# Altium schematic symbol library NG2094.SchLib: 16 symbols
Pins are listed as number, name and electrical type; pins without a type are passive.

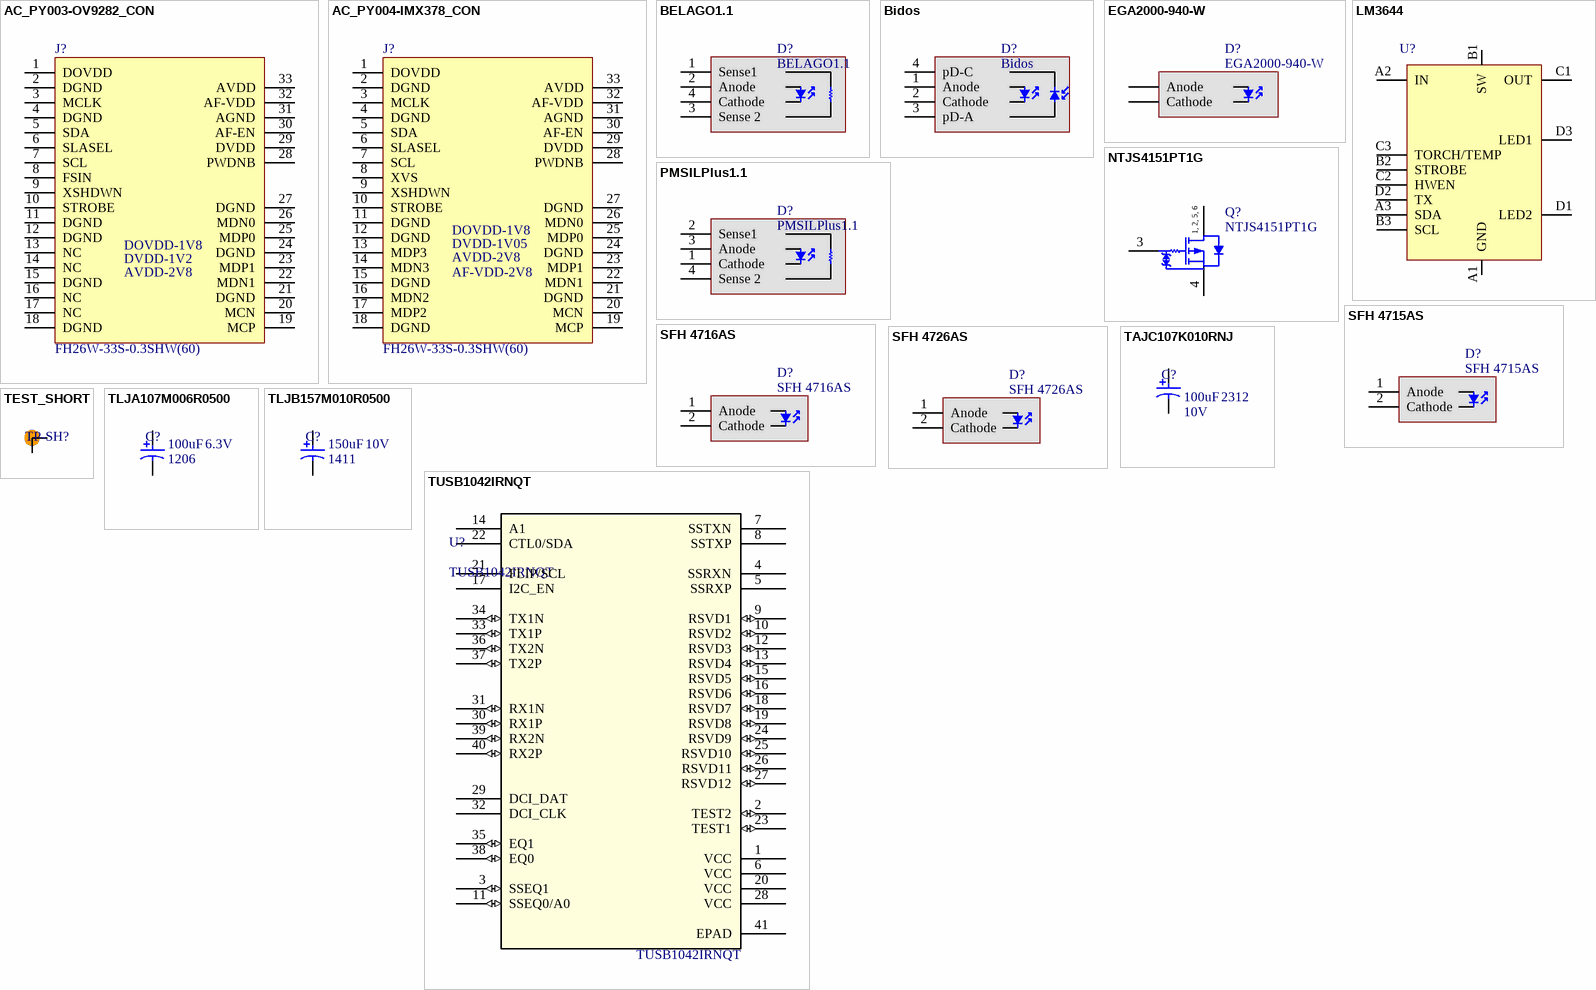
[diagram p0: symbols AC_PY003-OV9282_CON to TUSB1042IRNQT]

## AC_PY003-OV9282_CON
designator J?, comment FH26W-33S-0.3SHW(60)
FFC/FPC Connector, 33 Contact(s), 1 Row(s), Female, Right Angle, Surface Mount Terminal; Manufacturer 1: Hirose; Supplier 1: Digi-Key; Manufacturer Part Number 1: FH26W-33S-0.3SHW(60); RoHS: Yes; Category: FFC / FPC; Stock 1: 627; Pricing 1: 1=1,78000, 10=1,61700, 25=1,51800, 50=1,45200, 100=1,38600, 250=1,25400, 500=1,15500, 1000=0,99000, 2500=0,92400 (USD); ComponentLink1URL: https://datasheet.ciiva.com:443/pdfs/VipMasterIC/IC/HIRO/HIRO-S-A0007913874/HIRO-S-A0008593114-1.pdf?src-supplier=IHS+Markit; ComponentLink1Description: https://datasheet.ciiva.com:443/pdfs/VipMasterIC/IC/HIRO/HIRO-S-A0007913874/HIRO-S-A0008593114-1.pdf?src-supplier=IHS+Markit; ComponentLink2URL: https://www.hirose.com/product/en/download_file/key_name/FH26/category/Catalog/doc_file_id/49355/?file_category_id=4&item_id=298&is_series=1&src-supplier=Digi-Key; ComponentLink2Description: https://www.hirose.com/product/en/download_file/key_name/FH26/category/Catalog/doc_file_id/49355/?file_category_id=4&item_id=298&is_series=1&src-supplier=Digi-Key; ComponentLink3URL: https://www.hirose.com/product/download/?distributor=digikey&amp;type=2d&amp;lang=en&amp;num=FH26W-13S-0.3SHW(60)&src-supplier=Digi-Key; ComponentLink3Description: https://www.hirose.com/product/download/?distributor=digikey&amp;type=2d&amp;lang=en&amp;num=FH26W-13S-0.3SHW(60)&src-supplier=Digi-Key; Supplier Part Number 1: H125800CT-ND
footprint AC-PY003-OV9282 (connector: FH26W-33S-0.3SHW)
pins: 1 DOVDD, 2 DGND, 3 MCLK, 4 DGND, 5 SDA, 6 SLASEL, 7 SCL, 8 FSIN, 9 XSHDWN, 10 STROBE, 11 DGND, 12 DGND, 13 NC, 14 NC, 15 DGND, 16 NC, 17 NC, 18 DGND, 19 MCP, 20 MCN, 21 DGND, 22 MDN1, 23 MDP1, 24 DGND, 25 MDP0, 26 MDN0, 27 DGND, 28 PWDNB, 29 DVDD, 30 AF-EN, 31 AGND, 32 AF-VDD, 33 AVDD
text: DOVDD-1V8; DVDD-1V2; AVDD-2V8

## AC_PY004-IMX378_CON
designator J?, comment FH26W-33S-0.3SHW(60)
FFC/FPC Connector, 33 Contact(s), 1 Row(s), Female, Right Angle, Surface Mount Terminal; Manufacturer 1: Hirose; Supplier 1: Digi-Key; Manufacturer Part Number 1: FH26W-33S-0.3SHW(60); RoHS: Yes; Category: FFC / FPC; Stock 1: 627; Pricing 1: 1=1,78000, 10=1,61700, 25=1,51800, 50=1,45200, 100=1,38600, 250=1,25400, 500=1,15500, 1000=0,99000, 2500=0,92400 (USD); ComponentLink1URL: https://datasheet.ciiva.com:443/pdfs/VipMasterIC/IC/HIRO/HIRO-S-A0007913874/HIRO-S-A0008593114-1.pdf?src-supplier=IHS+Markit; ComponentLink1Description: https://datasheet.ciiva.com:443/pdfs/VipMasterIC/IC/HIRO/HIRO-S-A0007913874/HIRO-S-A0008593114-1.pdf?src-supplier=IHS+Markit; ComponentLink2URL: https://www.hirose.com/product/en/download_file/key_name/FH26/category/Catalog/doc_file_id/49355/?file_category_id=4&item_id=298&is_series=1&src-supplier=Digi-Key; ComponentLink2Description: https://www.hirose.com/product/en/download_file/key_name/FH26/category/Catalog/doc_file_id/49355/?file_category_id=4&item_id=298&is_series=1&src-supplier=Digi-Key; ComponentLink3URL: https://www.hirose.com/product/download/?distributor=digikey&amp;type=2d&amp;lang=en&amp;num=FH26W-13S-0.3SHW(60)&src-supplier=Digi-Key; ComponentLink3Description: https://www.hirose.com/product/download/?distributor=digikey&amp;type=2d&amp;lang=en&amp;num=FH26W-13S-0.3SHW(60)&src-supplier=Digi-Key; Supplier Part Number 1: H125800CT-ND
footprint AC-PY004-IMX378 (connector: FH26W-33S-0.3SHW)
pins: 1 DOVDD, 2 DGND, 3 MCLK, 4 DGND, 5 SDA, 6 SLASEL, 7 SCL, 8 XVS, 9 XSHDWN, 10 STROBE, 11 DGND, 12 DGND, 13 MDP3, 14 MDN3, 15 DGND, 16 MDN2, 17 MDP2, 18 DGND, 19 MCP, 20 MCN, 21 DGND, 22 MDN1, 23 MDP1, 24 DGND, 25 MDP0, 26 MDN0, 27 DGND, 28 PWDNB, 29 DVDD, 30 AF-EN, 31 AGND, 32 AF-VDD, 33 AVDD
text: DOVDD-1V8; DVDD-1V05; AVDD-2V8; AF-VDD-2V8

## BELAGO1.1
designator D?
Dot-Pattern Infrared Illuminator for 3D Stereoscopic / Imaging AQAA-20; Manufacturer 1: AMS; Manufacturer Part Number 1: Belago1.1 AQAA-20
footprint Belago1.1 (SOT23, 6-Leads, Body 2x1.25mm, Pitch 0.65mm)
pins: 1 Sense1, 2 Anode, 3 Sense 2, 4 Cathode

## Bidos
designator D?
Manufacturer 1: AMS; Manufacturer Part Number 1: PMSILPlus1.1
footprint BIDOS (SV105Q131A-940)
pins: 1 Anode, 2 Cathode, 3 pD-A, 4 pD-C

## EGA2000-940-W
designator D?
EGA2000-940-W / Industrial High-Power Flood Illuminator; Manufacturer 1: AMS; Manufacturer Part Number 1: EGA2000-940-W
footprint EGA2000-940 (ams Industrial High-Power Flood Illuminator)
pins: A Anode, C Cathode

## LM3644
designator U?, comment LM3644YFFR  (value not drawn)
LED Driver, 2-Segment, PBGA12; Manufacturer 1: Texas Instruments; Package Body Material: Plastic; Data Input Mode: SERIAL; Interface IC Type: LED DISPLAY DRIVER; Multiplexed Display Capability: No; Number of Functions: 1; Number of Segments: 2; Max Supply Voltage: 5.5V; Min Supply Voltage: 2.5V; Supply Voltage-Nom: 3.6V; Supplier 1: Arrow Electronics; Manufacturer Part Number 1: LM3644YFFR; RoHS: Yes; Category: LED Drivers; Stock 1: 2033; Pricing 1: 1=0,64580, 10=0,63600, 25=0,62590, 100=0,61590, 250=0,60610, 500=0,59600, 1000=0,58600, 3000=0,35000, 30000=0,34520, 300000=0,31610, 1500000=0,29870, 3000000=0,29850 (USD); Package Code: VFBGA; Number of Pins: 12; Package Shape: Rectangular; Terminal Finish: Copper; Min Operating Temperature: -40°C; Max Operating Temperature: 85°C; JESD-609 Code: e1; Moisture Sensitivity Level: 1; Package Style: GRID ARRAY, VERY THIN PROFILE, FINE PITCHMeter; Peak Reflow Temperature (Cel): 260°C; Surface Mount: Yes; Terminal Form: Ball; Terminal Position: BOTTOM; Length: 1.66mm; Width: 1.28mm; Height - Seated (Max): 0.625mm; Terminal Pitch: 0.4mm; Temperature Grade: INDUSTRIAL; REACH SVHC: Yes; RoHS Compliant: Yes; ComponentLink1URL: https://www.ti.com:443/lit/ds/symlink/lm3644.pdf?src-supplier=IHS+Markit; ComponentLink1Description: https://www.ti.com:443/lit/ds/symlink/lm3644.pdf?src-supplier=IHS+Markit; ComponentLink2URL: https://datasheet.ciiva.com/48475/lm3644-48475318.pdf?src-supplier=Avnet; ComponentLink2Description: https://datasheet.ciiva.com/48475/lm3644-48475318.pdf?src-supplier=Avnet; Supplier Part Number 1: LM3644YFFR
footprint LM3644YFFR (DSBGA 12 (pitch 0.4mm))
pins: A1 GND, A2 IN, A3 SDA, B1 SW, B2 STROBE, B3 SCL, C1 OUT, C2 HWEN, C3 TORCH/TEMP, D1 LED2, D2 TX, D3 LED1

## NTJS4151PT1G
designator Q?
Trench Power MOSFET, -20 V, -4.2 A, Single P-Channel, 6-Pin SC70, Pb-Free, Tape and Reel; Manufacturer 1: ON Semiconductor; VGS(th) Max (V): 1.2; VGS Max (V): 12; Crss Typ (pF): 110; Ciss Typ (pF): 850; PD Max (W): 1; Qrr Typ (nC): 0.23; ID Max (A): 4.2; Coss Typ (pF): 160; Channel Polarity: P Channel; V(BR)DSS Min (V): 20; Mounting Technology: Surface Mount; ComponentLink3Description: Package Specification; Packing: Tape and Reel; DatasheetVersion: Rev. 1; RoHS: Pb-Free; Configuration: Single; PackageReference: SC70-6-419B-02_W; PackageVersion: Rev. W; Package Type: SC-88-6 / SC-70-6 / SOT-363-6; ComponentLink3URL: http://www.onsemi.com/pub_link/Collateral/SMF05C-D.PDF; PackageDescription: 6-Pin Small Outline Transistor, Body 2 x 1.25 mm, Pitch 0.65 mm; PartNumber: NTJS4151PT1G; ComponentLink2Description: Datasheet; ComponentLink1Description: Manufacturer URL; ComponentLink2URL: http://www.onsemi.com/pub_link/Collateral/NTJS4151P-D.PDF; ComponentLink1URL: http://www.onsemi.com/; Manufacturer Part Number 1: NTJS4151PT1G
footprint ONSC-SC70-6-419B-02_W_V (SOT23, 6-Leads, Body 2x1.25mm, Pitch 0.65mm)
pins: 1 D, 2 D, 3 G, 4 S, 5 D, 6 D
text: 1, 2, 5, 6

## PMSILPlus1.1
designator D?
Dot-Pattern Infrared Illuminator for 3D Stereoscopic / Imaging AQAA-20; Manufacturer 1: AMS; Manufacturer Part Number 1: PMSILPlus1.1
footprint PMSILPlus1.1 (SOT23, 6-Leads, Body 2x1.25mm, Pitch 0.65mm)
pins: 1 Cathode, 2 Sense1, 3 Anode, 4 Sense 2

## SFH 4715AS
designator D?
OSLON Black Series (850 nm) - 80°; Manufacturer 1: Osram; Ordering code: Q65111A6857; Manufacturer Part Number 1: SFH 4715AS
footprint SFH 4715AS (OSLON Black Series (850 nm) - 80°)
pins: 1 Anode, 2 Cathode

## SFH 4716AS
designator D?
OSLON Black Series (850 nm) - 150°; Manufacturer 1: Osram; Ordering code: Q65111A6856; Manufacturer Part Number 1: SFH 4716AS
footprint SFH 4716AS (OSLON Black Series (850 nm) - 150°)
pins: 1 Anode, 2 Cathode

## SFH 4726AS
designator D?
OSLON Black Series (940 nm) - 150°; Manufacturer 1: Osram Opto; Manufacturer Part Number 1: SFH 4726AS A01; Description: Infrared LED; Supplier 1: Newark; RoHS: Yes; Category: LEDs; Optoelectronic Device Type: INFRARED LED; REACH SVHC: Yes; RoHS Compliant: Yes; ComponentLink1URL: https://datasheet.ciiva.com:443/pdfs/VipMasterIC/IC/OSOS/OSOS-S-A0009010498/OSOS-S-A0009010498-1.pdf?src-supplier=IHS+Markit; ComponentLink1Description: https://datasheet.ciiva.com:443/pdfs/VipMasterIC/IC/OSOS/OSOS-S-A0009010498/OSOS-S-A0009010498-1.pdf?src-supplier=IHS+Markit; ComponentLink2URL: http://www.farnell.com/datasheets/2711624.pdf?src-supplier=Farnell; ComponentLink2Description: http://www.farnell.com/datasheets/2711624.pdf?src-supplier=Farnell; Supplier Part Number 1: 94AC5058; Stock 1: 628; Pricing 1: 1=4,49000, 10=3,74000, 25=3,35000, 50=2,97000, 100=2,58000 (USD)
footprint SFH 4726AS (OSLON Black Series (940 nm) - 150°)
pins: 1 Anode, 2 Cathode

## TAJC107K010RNJ
designator C?  Size Code: 2312  Rated DC Voltage (URdc): 10V  Capacitance: 100uF  (hidden comment: TAJC107K010RNJ)
Tantalum Capacitor, Polarized, Tantalum (dry/solid), 10V, 10% +Tol, 10% -Tol, 100uF, Surface Mount, 2312; Manufacturer 1: Kyocera AVX; ESR (Equivalent Series Resistance): 1.2R; Leakage Current: 10uA; Tan Delta: 0.08; Reference Standard: CECC30801-005; Supplier 1: Digi-Key; Manufacturer Part Number 1: TAJC107K010RNJ; RoHS: Yes; Category: Tantalum Capacitors; Stock 1: 2500; Pricing 1: 1=0,67000, 10=0,47300, 50=0,35780, 100=0,31160 (USD); Mount: Surface Mount; Number of Pins: 2; Dielectric Material: Tantalum; Package Shape: Rectangular; Terminal Finish: Nickel; Min Operating Temperature: -55°C; Max Operating Temperature: 125°C; JESD-609 Code: e3; Polarity: Polarized; Capacitor Type: Tantalum; Negative Tolerance: 10%; Package Style: SMTMeter; Packaging: Tape and Reel; Positive Tolerance: 10%; Termination: J BEND; Length: 6mm; Width: 3.2mm; Height: 2.6mm; REACH SVHC: Yes; RoHS Compliant: Yes; ComponentLink1URL: https://datasheet.ciiva.com:443/pdfs/VipMasterIC/IC/AVXC/AVXC-S-A0008794508/AVXC-S-A0008794508-1.pdf?src-supplier=IHS+Markit; ComponentLink1Description: https://datasheet.ciiva.com:443/pdfs/VipMasterIC/IC/AVXC/AVXC-S-A0008794508/AVXC-S-A0008794508-1.pdf?src-supplier=IHS+Markit; ComponentLink2URL: https://datasheet.ciiva.com/6186/13070-6186737.pdf?src-supplier=Farnell; ComponentLink2Description: https://datasheet.ciiva.com/6186/13070-6186737.pdf?src-supplier=Farnell; ComponentLink3URL: https://datasheet.ciiva.com/11793/0900766b80ccdc61-11793710.pdf?src-supplier=RSComponents; ComponentLink3Description: https://datasheet.ciiva.com/11793/0900766b80ccdc61-11793710.pdf?src-supplier=RSComponents; ComponentLink4URL: https://datasheet.ciiva.com/26341/559445-da-01-en-tacc-c-6-0-mm-x-3-2-mm-x-2-6-mm-100-uf-26341786.pdf?src-supplier=Conrad; ComponentLink4Description: https://datasheet.ciiva.com/26341/559445-da-01-en-tacc-c-6-0-mm-x-3-2-mm-x-2-6-mm-100-uf-26341786.pdf?src-supplier=Conrad; ComponentLink5URL: https://datasheet.ciiva.com/7720/taj-7720616.pdf?src-supplier=Element14; ComponentLink5Description: https://datasheet.ciiva.com/7720/taj-7720616.pdf?src-supplier=Element14; ComponentLink6URL: https://datasheet.ciiva.com/14608/70001050-14608635.pdf?src-supplier=Allied+Electronics; ComponentLink6Description: https://datasheet.ciiva.com/14608/70001050-14608635.pdf?src-supplier=Allied+Electronics; ComponentLink7URL: https://datasheet.ciiva.com/7720/taj-7720618.pdf?src-supplier=Element14; ComponentLink7Description: https://datasheet.ciiva.com/7720/taj-7720618.pdf?src-supplier=Element14; ComponentLink8URL: https://datasheet.ciiva.com/18710/taj-eng-18710871.pdf?src-supplier=Distrelec; ComponentLink8Description: https://datasheet.ciiva.com/18710/taj-eng-18710871.pdf?src-supplier=Distrelec; ComponentLink9URL: https://datasheet.ciiva.com/3004/taj-3004482.pdf?src-supplier=Avnet; ComponentLink9Description: https://datasheet.ciiva.com/3004/taj-3004482.pdf?src-supplier=Avnet; ComponentLink10URL: https://datasheet.ciiva.com/16486/taj-16486014.pdf?src-supplier=Avnet+Asia; ComponentLink10Description: https://datasheet.ciiva.com/16486/taj-16486014.pdf?src-supplier=Avnet+Asia; ComponentLink11URL: https://datasheet.ciiva.com/264/taj-264316.pdf?src-supplier=Digi-Key; ComponentLink11Description: https://datasheet.ciiva.com/264/taj-264316.pdf?src-supplier=Digi-Key; ComponentLink12URL: https://datasheet.ciiva.com/15163/getdatasheetpartid-87208-15163226.pdf?src-supplier=Verical; ComponentLink12Description: https://datasheet.ciiva.com/15163/getdatasheetpartid-87208-15163226.pdf?src-supplier=Verical; ComponentLink13URL: https://datasheet.ciiva.com/7720/13070-7720615.pdf?src-supplier=Element14; ComponentLink13Description: https://datasheet.ciiva.com/7720/13070-7720615.pdf?src-supplier=Element14; ComponentLink14URL: https://datasheet.ciiva.com/14590/70001050-14590206.pdf?src-supplier=Allied+Electronics; ComponentLink14Description: https://datasheet.ciiva.com/14590/70001050-14590206.pdf?src-supplier=Allied+Electronics; ComponentLink15URL: https://datasheet.ciiva.com/11226/taj-11226030.pdf?src-supplier=Avnet; ComponentLink15Description: https://datasheet.ciiva.com/11226/taj-11226030.pdf?src-supplier=Avnet; ComponentLink16URL: https://datasheet.ciiva.com/264/taj-264317.pdf?src-supplier=Digi-Key; ComponentLink16Description: https://datasheet.ciiva.com/264/taj-264317.pdf?src-supplier=Digi-Key; ComponentLink17URL: https://datasheet.ciiva.com/16350/taj-16350362.pdf?src-supplier=Future+Electronics; ComponentLink17Description: https://datasheet.ciiva.com/16350/taj-16350362.pdf?src-supplier=Future+Electronics; ComponentLink18URL: https://datasheet.ciiva.com/7720/1680476-7720617.pdf?src-supplier=Element14; ComponentLink18Description: https://datasheet.ciiva.com/7720/1680476-7720617.pdf?src-supplier=Element14; ComponentLink19URL: https://datasheet.ciiva.com/264/taj-264318.pdf?src-supplier=Digi-Key; ComponentLink19Description: https://datasheet.ciiva.com/264/taj-264318.pdf?src-supplier=Digi-Key; ComponentLink20URL: https://datasheet.ciiva.com/7720/taj-7720830.pdf?src-supplier=Element14; ComponentLink20Description: https://datasheet.ciiva.com/7720/taj-7720830.pdf?src-supplier=Element14; Supplier Part Number 1: 478-1704-1-ND
footprint AVX-TAJ-C-2_L (Molded Capacitor, 2-Leads, Body 6.2x3.4mm, IPC High Density)
footprint AVX-TAJ-C-2_M (Molded Capacitor, 2-Leads, Body 6.2x3.4mm, IPC Low Density)
footprint AVX-TAJ-C-2_N (Molded Capacitor, 2-Leads, Body 6.2x3.4mm, IPC Medium Density)
pins: 1, 2

## TEST_SHORT
designator TP-SH?  (no BOM)
footprint TP_short
pins: 1, 2

## TLJA107M006R0500
designator C?, comment Size Code: 1206  Capacitance: 100uF  Rated DC Voltage (URdc): 6.3V  (hidden comment: 100uF 1206 6V3 tantal)
Tantalum Capacitor, Polarized, Tantalum (dry/solid), 6.3V, 20% +Tol, 20% -Tol, 100uF, Surface Mount, 1206; Manufacturer 1: Kyocera AVX; Manufacturer Part Number 1: TLJA107M006R0500; ESR (Equivalent Series Resistance): 500mR; Leakage Current: 6uA; Ripple Current: 349mA; Supplier 1: Digi-Key; RoHS: Yes; Category: Tantalum Capacitors; Stock 1: 1699; Pricing 1: 1=0,68000, 10=0,49800, 50=0,39840, 100=0,34150, 500=0,27036, 1000=0,22768 (USD); Mount: Surface Mount; Number of Pins: 2; Dielectric Material: Tantalum; Package Shape: Rectangular; Terminal Finish: Nickel; Min Operating Temperature: -55°C; Max Operating Temperature: 125°C; JESD-609 Code: e3; Polarity: Polarized; Capacitor Type: Tantalum; Negative Tolerance: 20%; Package Style: SMTMeter; Packaging: Tape and Reel; Positive Tolerance: 20%; Termination: J BEND; Length: 3.2mm; Width: 1.6mm; Height: 1.6mm; REACH SVHC: Yes; RoHS Compliant: Yes; ComponentLink1URL: https://datasheet.ciiva.com:443/pdfs/VipMasterIC/IC/AVXC/AVXC-S-A0008508048/AVXC-S-A0008508048-1.pdf?src-supplier=IHS+Markit; ComponentLink1Description: https://datasheet.ciiva.com:443/pdfs/VipMasterIC/IC/AVXC/AVXC-S-A0008508048/AVXC-S-A0008508048-1.pdf?src-supplier=IHS+Markit; ComponentLink2URL: https://datasheet.ciiva.com/3797/21tlj-3797551.pdf?src-supplier=Arrow+Electronics; ComponentLink2Description: https://datasheet.ciiva.com/3797/21tlj-3797551.pdf?src-supplier=Arrow+Electronics; ComponentLink3URL: https://datasheet.ciiva.com/7720/1533257-7720677.pdf?src-supplier=Element14; ComponentLink3Description: https://datasheet.ciiva.com/7720/1533257-7720677.pdf?src-supplier=Element14; ComponentLink4URL: https://datasheet.ciiva.com/28609/packmark-28609461.pdf?src-supplier=Element14; ComponentLink4Description: https://datasheet.ciiva.com/28609/packmark-28609461.pdf?src-supplier=Element14; ComponentLink5URL: https://datasheet.ciiva.com/264/tlj-264694.pdf?src-supplier=Digi-Key; ComponentLink5Description: https://datasheet.ciiva.com/264/tlj-264694.pdf?src-supplier=Digi-Key; ComponentLink6URL: https://datasheet.ciiva.com/264/tlj-264695.pdf?src-supplier=Digi-Key; ComponentLink6Description: https://datasheet.ciiva.com/264/tlj-264695.pdf?src-supplier=Digi-Key; ComponentLink7URL: https://datasheet.ciiva.com/264/tlj-264696.pdf?src-supplier=Digi-Key; ComponentLink7Description: https://datasheet.ciiva.com/264/tlj-264696.pdf?src-supplier=Digi-Key; ComponentLink8URL: https://datasheet.ciiva.com/11229/tlj-11229385.pdf?src-supplier=Avnet; ComponentLink8Description: https://datasheet.ciiva.com/11229/tlj-11229385.pdf?src-supplier=Avnet; ComponentLink9URL: https://datasheet.ciiva.com/28609/1910903-28609449.pdf?src-supplier=Element14; ComponentLink9Description: https://datasheet.ciiva.com/28609/1910903-28609449.pdf?src-supplier=Element14; ComponentLink10URL: https://datasheet.ciiva.com/16501/tlj-16501341.pdf?src-supplier=Future+Electronics; ComponentLink10Description: https://datasheet.ciiva.com/16501/tlj-16501341.pdf?src-supplier=Future+Electronics; ComponentLink11URL: https://datasheet.ciiva.com/14590/70001364-14590207.pdf?src-supplier=Allied+Electronics; ComponentLink11Description: https://datasheet.ciiva.com/14590/70001364-14590207.pdf?src-supplier=Allied+Electronics; Supplier Part Number 1: 478-3345-1-ND
footprint RESTL1206(3216)_L (Chip Resistor, Body 3.2x1.6mm, IPC High Density)
footprint RESTL1206(3216)_M (Chip Resistor, Body 3.2x1.6mm, IPC Low Density)
footprint RESTL1206(3216)_N (Chip Resistor, Body 3.2x1.6mm, IPC Medium Density)
pins: 1, 2

## TLJB157M010R0500
designator C?, comment Size Code: 1411  Rated DC Voltage (URdc): 10V  Capacitance: 150uF  (hidden comment: 150uF 1206 10V tantal)
Tantalum Capacitor, Polarized, Tantalum (dry/solid), 10V, 20% +Tol, 20% -Tol, 150uF, Surface Mount, 1210; Manufacturer 1: Kyocera AVX; Manufacturer Part Number 1: TLJB157M010R0500; ESR (Equivalent Series Resistance): 500mR; Leakage Current: 15uA; Ripple Current: 371mA; Supplier 1: Digi-Key; RoHS: Yes; Category: Tantalum Capacitors; Stock 1: 10000; Pricing 1: 1=0,74000, 10=0,54700, 50=0,43800, 100=0,37540, 500=0,29716, 1000=0,25024 (USD); Mount: Surface Mount; Number of Pins: 2; Dielectric Material: Tantalum; Package Shape: Rectangular; Terminal Finish: Nickel; Min Operating Temperature: -55°C; Max Operating Temperature: 125°C; JESD-609 Code: e3; Polarity: Polarized; Capacitor Type: Tantalum; Negative Tolerance: 20%; Package Style: SMTMeter; Packaging: Tape and Reel; Positive Tolerance: 20%; Termination: J BEND; Length: 3.5mm; Width: 2.8mm; Height: 1.9mm; REACH SVHC: Yes; RoHS Compliant: Yes; ComponentLink1URL: https://datasheet.ciiva.com:443/pdfs/VipMasterIC/IC/AVXC/AVXC-S-A0008508048/AVXC-S-A0008508048-1.pdf?src-supplier=IHS+Markit; ComponentLink1Description: https://datasheet.ciiva.com:443/pdfs/VipMasterIC/IC/AVXC/AVXC-S-A0008508048/AVXC-S-A0008508048-1.pdf?src-supplier=IHS+Markit; ComponentLink2URL: https://datasheet.ciiva.com/264/tlj-264786.pdf?src-supplier=Digi-Key; ComponentLink2Description: https://datasheet.ciiva.com/264/tlj-264786.pdf?src-supplier=Digi-Key; ComponentLink3URL: https://datasheet.ciiva.com/264/tlj-264787.pdf?src-supplier=Digi-Key; ComponentLink3Description: https://datasheet.ciiva.com/264/tlj-264787.pdf?src-supplier=Digi-Key; ComponentLink4URL: https://datasheet.ciiva.com/264/tlj-264788.pdf?src-supplier=Digi-Key; ComponentLink4Description: https://datasheet.ciiva.com/264/tlj-264788.pdf?src-supplier=Digi-Key; ComponentLink5URL: https://datasheet.ciiva.com/46385/1910903-46385237.pdf?src-supplier=Element14; ComponentLink5Description: https://datasheet.ciiva.com/46385/1910903-46385237.pdf?src-supplier=Element14; ComponentLink6URL: https://datasheet.ciiva.com/28515/tlj-28515528.pdf?src-supplier=Element14; ComponentLink6Description: https://datasheet.ciiva.com/28515/tlj-28515528.pdf?src-supplier=Element14; ComponentLink7URL: https://datasheet.ciiva.com/7773/1533257-7773833.pdf?src-supplier=Element14; ComponentLink7Description: https://datasheet.ciiva.com/7773/1533257-7773833.pdf?src-supplier=Element14; ComponentLink8URL: https://datasheet.ciiva.com/14593/70001364-14593673.pdf?src-supplier=Allied+Electronics; ComponentLink8Description: https://datasheet.ciiva.com/14593/70001364-14593673.pdf?src-supplier=Allied+Electronics; ComponentLink9URL: https://datasheet.ciiva.com/14606/70001364-14606409.pdf?src-supplier=Allied+Electronics; ComponentLink9Description: https://datasheet.ciiva.com/14606/70001364-14606409.pdf?src-supplier=Allied+Electronics; ComponentLink10URL: https://datasheet.ciiva.com/7773/1533257-7773834.pdf?src-supplier=Element14; ComponentLink10Description: https://datasheet.ciiva.com/7773/1533257-7773834.pdf?src-supplier=Element14; ComponentLink11URL: https://datasheet.ciiva.com/11229/tlj-11229389.pdf?src-supplier=Avnet; ComponentLink11Description: https://datasheet.ciiva.com/11229/tlj-11229389.pdf?src-supplier=Avnet; ComponentLink12URL: https://datasheet.ciiva.com/17339/tlj-17339422.pdf?src-supplier=Avnet+Europe; ComponentLink12Description: https://datasheet.ciiva.com/17339/tlj-17339422.pdf?src-supplier=Avnet+Europe; Supplier Part Number 1: 478-3349-1-ND
footprint RESTL1210(3225)_N (Chip Resistor, Body 3.2x2.5mm, IPC Medium Density)
footprint RESTL1210(3225)_M (Chip Resistor, Body 3.2x2.5mm, IPC Low Density)
footprint RESTL1210(3225)_L (Chip Resistor, Body 3.2x2.5mm, IPC High Density)
pins: 1, 2

## TUSB1042IRNQT
designator U?
Line Transceiver, 3 Func, 5 Driver, 3 Rcvr, PQCC40; Manufacturer 1: Texas Instruments; Package Body Material: Plastic; Differential Output: Yes; Driver Number of Bits: 5; Input Characteristics: DIFFERENTIAL; Number of Functions: 3; Receive Delay-Max: 0.3ns; Max Supply Voltage: 3.6V; Min Supply Voltage: 3V; Supply Voltage-Nom: 3.3V; Supplier 1: Digi-Key; RoHS: Yes; Category: Integrated Circuits (ICs); Stock 1: 216; Pricing 1: 1=8,51000, 10=7,69200, 25=7,33400, 100=6,36800 (USD); Package Code: HVQCCN; Number of Pins: 40; Package Shape: Rectangular; Terminal Finish: Nickel; Min Operating Temperature: -40°C; Max Operating Temperature: 85°C; JESD-609 Code: e4; Interface IC Type: LINE TRANSCEIVER; Moisture Sensitivity Level: 2; Package Style: CHIP CARRIER, HEAT SINK/SLUG, VERY THIN PROFILEMeter; Receiver Number of Bits: 3; Surface Mount: Yes; Terminal Form: No Lead; Terminal Position: QUAD; Transmit Delay-Max: 0.3ns; Length: 6mm; Width: 4mm; Height - Seated (Max): 0.8mm; Terminal Pitch: 0.4mm; Temperature Grade: INDUSTRIAL; REACH SVHC: Yes; RoHS Compliant: Yes; ComponentLink1URL: https://www.ti.com:443/lit/ds/symlink/tusb1042i.pdf?src-supplier=IHS+Markit; ComponentLink1Description: https://www.ti.com:443/lit/ds/symlink/tusb1042i.pdf?src-supplier=IHS+Markit; ComponentLink2URL: http://www.ti.com/general/docs/suppproductinfo.tsp?distId=10&amp;gotoUrl=http%3A%2F%2Fwww.ti.com%2Flit%2Fgpn%2Ftusb1042i&src-supplier=Digi-Key; ComponentLink2Description: http://www.ti.com/general/docs/suppproductinfo.tsp?distId=10&amp;gotoUrl=http%3A%2F%2Fwww.ti.com%2Flit%2Fgpn%2Ftusb1042i&src-supplier=Digi-Key; ComponentLink3URL: http://www.ti.com/lit/ds/symlink/tusb1042i.pdf?src-supplier=Digi-Key; ComponentLink3Description: http://www.ti.com/lit/ds/symlink/tusb1042i.pdf?src-supplier=Digi-Key; Supplier Part Number 1: 296-47553-1-ND; Manufacturer Part Number 1: TUSB1042IRNQT
footprint RNQ40_TI
pins: 1 VCC (power), 2 TEST2 (io), 3 SSEQ1 (io), 4 SSRXN, 5 SSRXP, 6 VCC (power), 7 SSTXN, 8 SSTXP, 9 RSVD1 (io), 10 RSVD2 (io), 11 SSEQ0/A0 (io), 12 RSVD3 (io), 13 RSVD4 (io), 14 A1, 15 RSVD5 (io), 16 RSVD6 (io), 17 I2C_EN, 18 RSVD7 (io), 19 RSVD8 (io), 20 VCC (power), 21 FLIP/SCL, 22 CTL0/SDA, 23 TEST1 (io), 24 RSVD9 (io), 25 RSVD10 (io), 26 RSVD11 (io), 27 RSVD12 (io), 28 VCC (power), 29 DCI_DAT, 30 RX1P (io), 31 RX1N (io), 32 DCI_CLK, 33 TX1P (io), 34 TX1N (io), 35 EQ1 (io), 36 TX2N (io), 37 TX2P (io), 38 EQ0 (io), 39 RX2N (io), 40 RX2P (io), 41 EPAD